# Altium footprint library DPAK_M.PcbLib: 40 footprints (part 2 of 3)
Each footprint in its own frame and in the unit in brackets; x right, y up, seen from the top. Pads: shape width x height; smd on the part's side, far side on the other; paste and mask are expansions set on the pad; w line width, h text height; cw(c..) or ccw(c..) is an arc to the next point about the centre after c.
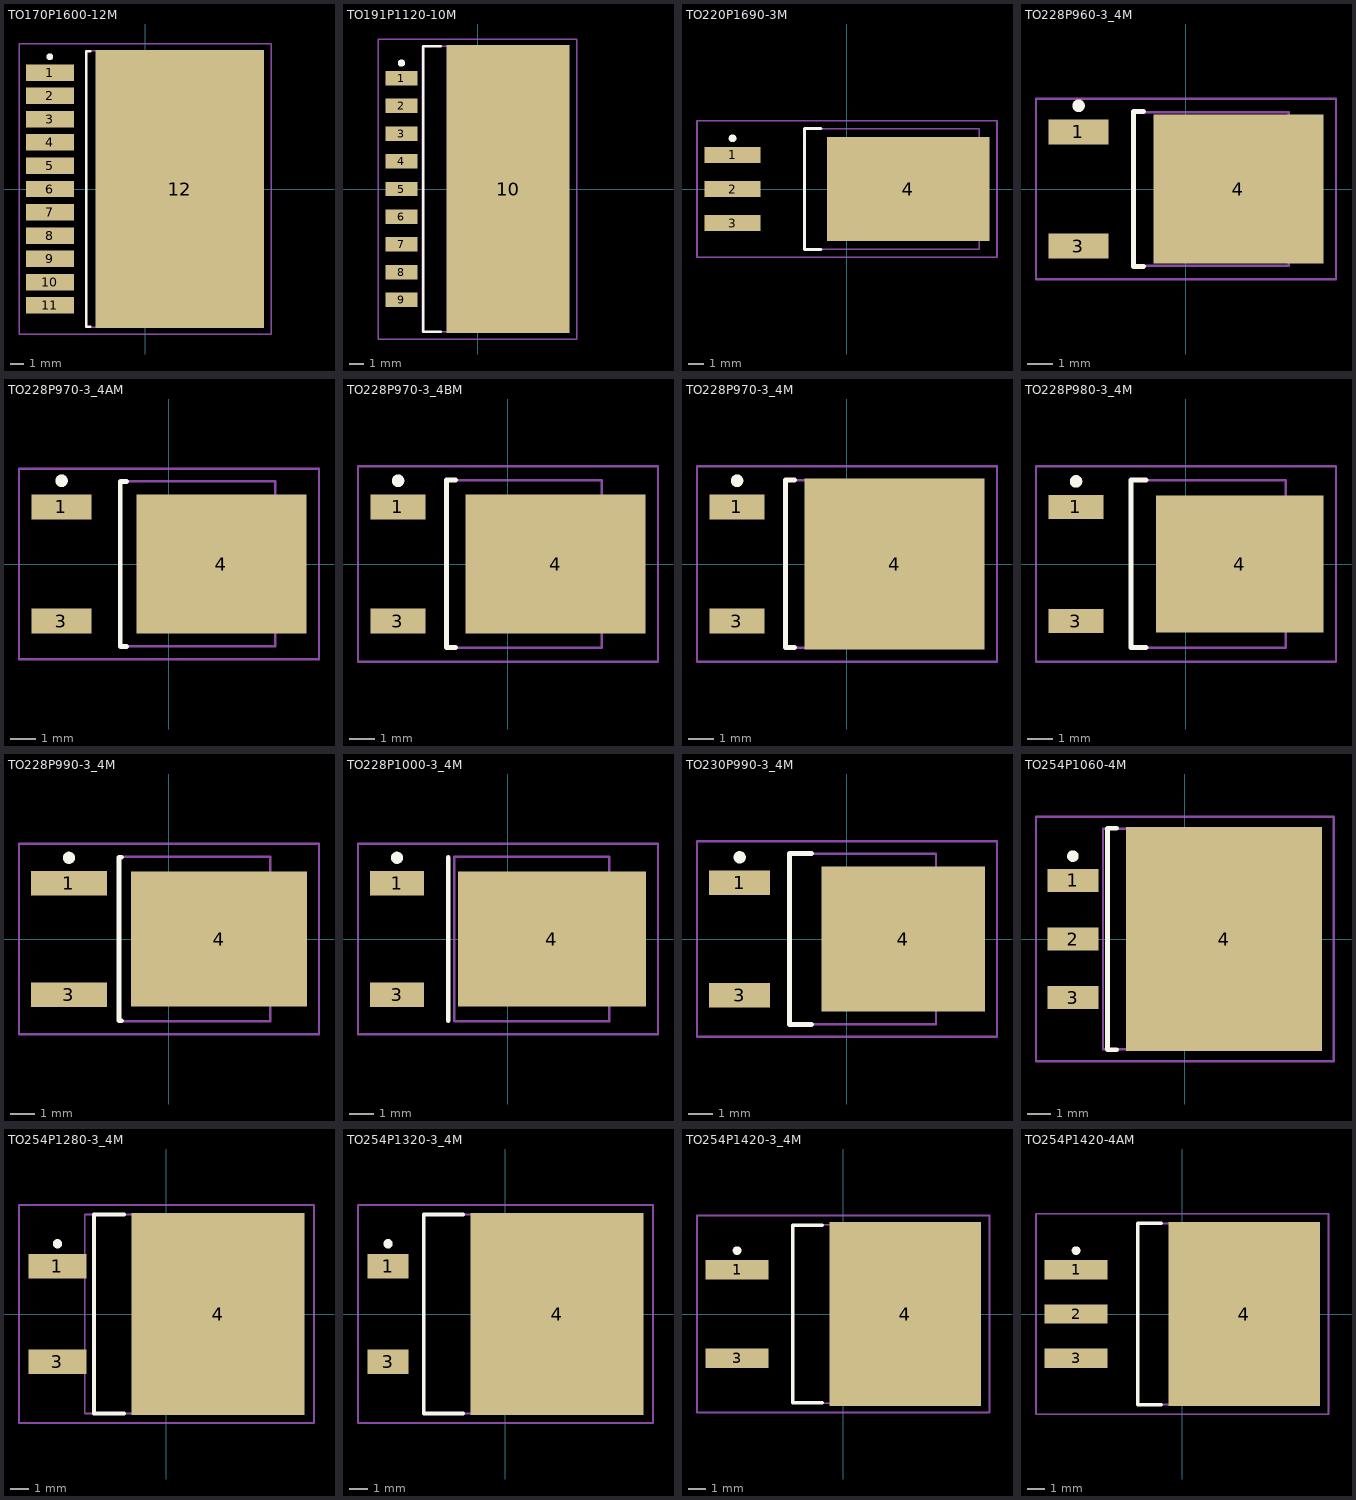
[diagram p1: the footprints below, top view; thin cyan lines are the x and y axes]

## TO170P1600-12M [mm] "TO, 12-Leads, Body 10.7x20mm, Pitch 1.7mm, Lead Span 16mm, IPC Low Density"
height 4.65
pads (12):
  rect 3.5x1.2 smd: 1(-6.95,8.5) 2(-6.95,6.8) 3(-6.95,5.1) 4(-6.95,3.4) 5(-6.95,1.7) 6(-6.95,0) 7(-6.95,-1.7) 8(-6.95,-3.4) 9(-6.95,-5.1) 10(-6.95,-6.8) 11(-6.95,-8.5)
  rect 12.3x20.3 smd: 12(2.55,0)
Top Overlay:
  circle w0.25: c-6.95,9.65 r0.125
  lines w0.2: -4,-10.05 -4.3,-10.05 -4.3,10.05 -4,10.05
Mechanical 13:
  lines w0.1: -4.3,-10.075 -4.3,10.075 6.52,10.075 6.52,-10.075 -4.3,-10.075
Mechanical 15:
  lines w0.1: -0.5,0 0.5,0 ; 0,-0.5 0,0.5 ; -9.2,-10.6 -9.2,10.6 9.2,10.6 9.2,-10.6 -9.2,-10.6
3D body: height 4.65, standoff 0, extent -4.3,-10.075 6.52,10.075

## TO191P1120-10M [mm] "TO, 10-Leads, Body 8.7x19.6mm, Pitch 1.91mm, Lead Span 11.2mm, IPC Low Density"
height 2.05
pads (10):
  rect 2.2x1 smd: 1(-5.25,7.64) 2(-5.25,5.73) 3(-5.25,3.82) 4(-5.25,1.91) 5(-5.25,0) 6(-5.25,-1.91) 7(-5.25,-3.82) 8(-5.25,-5.73) 9(-5.25,-7.64)
  rect 8.5x19.85 smd: 10(2.1,0)
Top Overlay:
  circle w0.25: c-5.25,8.69 r0.125
  lines w0.2: -2.55,-9.85 -3.75,-9.85 -3.75,9.85 -2.55,9.85
Mechanical 13:
  lines w0.1: -3.8,-9.85 -3.8,9.85 5,9.85 5,-9.85 -3.8,-9.85
Mechanical 15:
  lines w0.1: -0.5,0 0.5,0 ; 0,-0.5 0,0.5 ; -6.85,-10.35 -6.85,10.35 6.85,10.35 6.85,-10.35 -6.85,-10.35
3D body: height 2.05, standoff 0, extent -3.8,-9.85 5,9.85

## TO220P1690-3M [mm] "Single-Ended SM Package, 3-Leads, Body 10.9x7.6mm, Pitch 2.2mm, Lead Span 16.9mm, IPC Low Density"
height 2.7
pads (4):
  rect 3.6x1.05 smd: 1(-7.4,2.2) 2(-7.4,0) 3(-7.4,-2.2)
  rect 10.5x6.75 smd: 4(3.95,0)
Top Overlay:
  circle w0.25: c-7.4,3.275 r0.125
  lines w0.2: -1.7,-3.9 -2.75,-3.9 -2.75,3.9 -1.7,3.9
Mechanical 13:
  lines w0.1: -2.75,-3.9 -2.75,3.9 8.55,3.9 8.55,-3.9 -2.75,-3.9
Mechanical 15:
  lines w0.1: -0.5,0 0.5,0 ; 0,-0.5 0,0.5 ; -9.7,-4.4 -9.7,4.4 9.7,4.4 9.7,-4.4 -9.7,-4.4
3D body: height 2.7, standoff 0, extent -2.75,-3.9 8.55,3.9

## TO228P960-3_4M [mm] "D-PAK, 4-Leads, Body 6.1x6mm, Pitch 2.28mm, Lead Span 9.7mm, IPC Low Density"
height 2.03
pads (3):
  rect 2.4x1 smd: 1(-4.3,2.28) 3(-4.3,-2.28)
  rect 6.8x5.95 smd: 4(2.1,0)
Top Overlay:
  circle w0.25: c-4.3,3.33 r0.125
  lines w0.2: -1.7,-3.1 -2.1,-3.1 -2.1,3.1 -1.7,3.1
Mechanical 13:
  lines w0.1: -2.1,-3.075 -2.1,3.075 4.1,3.075 4.1,-3.075 -2.1,-3.075
Mechanical 15:
  lines w0.1: -0.5,0 0.5,0 ; 0,-0.5 0,0.5 ; -6,-3.6 -6,3.6 6,3.6 6,-3.6 -6,-3.6
3D body: height 2.03, standoff 0, extent -2.1,-3.075 4.1,3.075

## TO228P970-3_4AM [mm] "D-PAK, 4-Leads, Body 6.1x6.5mm, Pitch 2.28mm, Lead Span 9.7mm, IPC Low Density"
height 2.4
pads (3):
  rect 2.4x1 smd: 1(-4.3,2.28) 3(-4.3,-2.28)
  rect 6.8x5.55 smd: 4(2.1,0)
Top Overlay:
  circle w0.25: c-4.3,3.33 r0.125
  lines w0.2: -1.7,-3.3 -1.95,-3.3 -1.95,3.3 -1.7,3.3
Mechanical 13:
  lines w0.1: -1.95,-3.3 -1.95,3.3 4.25,3.3 4.25,-3.3 -1.95,-3.3
Mechanical 15:
  lines w0.1: -0.5,0 0.5,0 ; 0,-0.5 0,0.5 ; -6,-3.8 -6,3.8 6,3.8 6,-3.8 -6,-3.8
3D body: height 2.4, standoff 0, extent -1.95,-3.3 4.25,3.3

## TO228P970-3_4BM [mm] "D-PAK, 4-Leads, Body 6.1x6.6mm, Pitch 2.29mm, Lead Span 9.7mm, IPC Low Density"
height 2.38
pads (3):
  rect 2.2x1 smd: 1(-4.4,2.28) 3(-4.4,-2.28)
  rect 7.2x5.55 smd: 4(1.9,0)
Top Overlay:
  circle w0.25: c-4.4,3.33 r0.125
  lines w0.2: -2.1,-3.35 -2.45,-3.35 -2.45,3.35 -2.1,3.35
Mechanical 13:
  lines w0.1: -2.45,-3.35 -2.45,3.35 3.75,3.35 3.75,-3.35 -2.45,-3.35
Mechanical 15:
  lines w0.1: -0.5,0 0.5,0 ; 0,-0.5 0,0.5 ; -6,-3.9 -6,3.9 6,3.9 6,-3.9 -6,-3.9
3D body: height 2.38, standoff 0, extent -2.449,-3.349 3.749,3.349

## TO228P970-3_4M [mm] "D-PAK, 4-Leads, Body 6.1x6.5mm, Pitch 2.28mm, Lead Span 9.7mm, IPC Low Density"
height 2.38
pads (3):
  rect 2.2x1 smd: 1(-4.4,2.28) 3(-4.4,-2.28)
  rect 7.2x6.85 smd: 4(1.9,0)
Top Overlay:
  circle w0.25: c-4.4,3.33 r0.125
  lines w0.2: -2.1,-3.35 -2.45,-3.35 -2.45,3.35 -2.1,3.35
Mechanical 13:
  lines w0.1: -2.45,-3.35 3.75,-3.35 3.75,3.35 -2.45,3.35 -2.45,-3.35
Mechanical 15:
  lines w0.1: -0.5,0 0.5,0 ; 0,-0.5 0,0.5 ; -6,-3.9 6,-3.9 6,3.9 -6,3.9 -6,-3.9
3D body: height 2.38, standoff 0, extent -2.45,-3.35 3.75,3.35

## TO228P980-3_4M [mm] "D-PAK, 4-Leads, Body 6.1x6.6mm, Pitch 2.28mm, Lead Span 9.8mm, IPC Low Density"
height 2.38
pads (3):
  rect 2.2x0.95 smd: 1(-4.4,2.28) 3(-4.4,-2.28)
  rect 6.7x5.5 smd: 4(2.15,0)
Top Overlay:
  circle w0.25: c-4.4,3.305 r0.125
  lines w0.2: -1.6,-3.35 -2.2,-3.35 -2.2,3.35 -1.6,3.35
Mechanical 13:
  lines w0.1: -2.2,-3.35 -2.2,3.35 4,3.35 4,-3.35 -2.2,-3.35
Mechanical 15:
  lines w0.1: -0.5,0 0.5,0 ; 0,-0.5 0,0.5 ; -6,-3.9 -6,3.9 6,3.9 6,-3.9 -6,-3.9
3D body: height 2.38, standoff 0, extent -2.2,-3.35 4,3.35

## TO228P990-3_4M [mm] "D-PAK, 4-Leads, Body 6.1x6.5mm, Pitch 2.28mm, Lead Span 9.9mm, IPC Low Density"
height 2.39
pads (3):
  rect 3.1x1 smd: 1(-4.1,2.28) 3(-4.1,-2.28)
  rect 7.2x5.55 smd: 4(2.05,0)
Top Overlay:
  circle w0.25: c-4.1,3.33 r0.125
  lines w0.2: -1.95,-3.35 -2.05,-3.35 -2.05,3.35 -1.95,3.35
Mechanical 13:
  lines w0.1: -2.05,-3.375 -2.05,3.375 4.15,3.375 4.15,-3.375 -2.05,-3.375
Mechanical 15:
  lines w0.1: -0.5,0 0.5,0 ; 0,-0.5 0,0.5 ; -6.15,-3.9 -6.15,3.9 6.15,3.9 6.15,-3.9 -6.15,-3.9
3D body: height 2.39, standoff 0, extent -2.05,-3.375 4.15,3.375

## TO228P1000-3_4M [mm] "D-PAK, 4-Leads, Body 6.1x6.6mm, Pitch 2.28mm, Lead Span 10mm, IPC Low Density"
height 2.38
pads (3):
  rect 2.2x1 smd: 1(-4.55,2.28) 3(-4.55,-2.28)
  rect 7.7x5.55 smd: 4(1.8,0)
Top Overlay:
  circle w0.25: c-4.55,3.33 r0.125
  lines w0.2: -2.45,-3.35 -2.45,3.35
Mechanical 13:
  lines w0.1: -2.2,-3.375 4.15,-3.375 4.15,3.375 -2.2,3.375 -2.2,-3.375
Mechanical 15:
  lines w0.1: -0.5,0 0.5,0 ; 0,-0.5 0,0.5 ; -6.15,-3.9 6.15,-3.9 6.15,3.9 -6.15,3.9 -6.15,-3.9
3D body: height 2.38, standoff 0, extent -2.2,-3.375 4.15,3.375

## TO230P990-3_4M [mm] "D-PAK, 4-Leads, Body 6x7mm, Pitch 2.3mm, Lead Span 9.9mm, IPC Low Density"
height 2.8
pads (3):
  rect 2.5x1 smd: 1(-4.4,2.3) 3(-4.4,-2.3)
  rect 6.7x5.95 smd: 4(2.3,0)
Top Overlay:
  circle w0.25: c-4.4,3.35 r0.125
  lines w0.2: -1.45,-3.5 -2.35,-3.5 -2.35,3.5 -1.45,3.5
Mechanical 13:
  lines w0.1: -2.35,-3.5 3.65,-3.5 3.65,3.5 -2.35,3.5 -2.35,-3.5
Mechanical 15:
  lines w0.1: -0.5,0 0.5,0 ; 0,-0.5 0,0.5 ; -6.15,-4 6.15,-4 6.15,4 -6.15,4 -6.15,-4
3D body: height 2.8, standoff 0, extent -2.35,-3.5 3.65,3.5

## TO254P1060-4M [mm] "D-PAK, 4-Leads, Body 8x9.4mm, Pitch 2.54mm, Lead Span 10.6mm, IPC Low Density"
height 2.05
pads (4):
  rect 2.2x1 smd: 1(-4.85,2.54) 2(-4.85,0) 3(-4.85,-2.54)
  rect 8.5x9.7 smd: 4(1.7,0)
Top Overlay:
  circle w0.25: c-4.85,3.59 r0.125
  lines w0.2: -2.95,-4.8 -3.35,-4.8 -3.35,4.8 -2.95,4.8
Mechanical 13:
  lines w0.1: -3.55,-4.775 -3.55,4.775 4.6,4.775 4.6,-4.775 -3.55,-4.775
Mechanical 15:
  lines w0.1: -0.5,0 0.5,0 ; 0,-0.5 0,0.5 ; -6.45,-5.3 -6.45,5.3 6.45,5.3 6.45,-5.3 -6.45,-5.3
3D body: height 2.05, standoff 0, extent -3.55,-4.775 4.6,4.775

## TO254P1280-3_4M [mm] "TO, 4-Leads, Body 9.6x10.2mm, Pitch 2.54mm, Lead Span 12.8mm, IPC Low Density"
height 5.1
pads (3):
  rect 3.1x1.3 smd: 1(-5.8,2.54) 3(-5.8,-2.54)
  rect 9.2x10.75 smd: 4(2.75,0)
Top Overlay:
  circle w0.25: c-5.8,3.74 r0.125
  lines w0.2: -2.25,-5.3 -3.85,-5.3 -3.85,5.3 -2.25,5.3
Mechanical 13:
  lines w0.1: -4.35,-5.3 -4.35,5.3 5.25,5.3 5.25,-5.3 -4.35,-5.3
Mechanical 15:
  lines w0.1: -0.5,0 0.5,0 ; 0,-0.5 0,0.5 ; -7.85,-5.8 -7.85,5.8 7.85,5.8 7.85,-5.8 -7.85,-5.8
3D body: height 5.1, standoff 0, extent -4.35,-5.3 5.25,5.3

## TO254P1320-3_4M [mm] "TO, 4-Leads, Body 9.6x10.2mm, Pitch 2.54mm, Lead Span 13.2mm, IPC Low Density"
height 5.1
pads (3):
  rect 2.2x1.3 smd: 1(-6.25,2.54) 3(-6.25,-2.54)
  rect 9.2x10.75 smd: 4(2.75,0)
Top Overlay:
  circle w0.25: c-6.25,3.74 r0.125
  lines w0.2: -2.25,-5.3 -4.35,-5.3 -4.35,5.3 -2.25,5.3
Mechanical 13:
  lines w0.1: -4.35,-5.3 -4.35,5.3 5.25,5.3 5.25,-5.3 -4.35,-5.3
Mechanical 15:
  lines w0.1: -0.5,0 0.5,0 ; 0,-0.5 0,0.5 ; -7.85,-5.8 -7.85,5.8 7.85,5.8 7.85,-5.8 -7.85,-5.8
3D body: height 5.1, standoff 0, extent -4.35,-5.3 5.25,5.3

## TO254P1420-3_4M [mm] "D2-PAK, 4-Leads, Body 9.2x10mm, Pitch 2.54mm, Lead Span 14.2mm, IPC Low Density"
height 4.57
pads (3):
  rect 3.6x1.1 smd: 1(-6.1,2.54) 3(-6.1,-2.54)
  rect 8.7x10.55 smd: 4(3.55,0)
Top Overlay:
  circle w0.25: c-6.1,3.64 r0.125
  lines w0.2: -1.2,-5.1 -2.9,-5.1 -2.9,5.1 -1.2,5.1
Mechanical 13:
  lines w0.1: -2.9,-5.125 6.45,-5.125 6.45,5.125 -2.9,5.125 -2.9,-5.125
Mechanical 15:
  lines w0.1: -0.5,0 0.5,0 ; 0,-0.5 0,0.5 ; -8.4,-5.65 8.4,-5.65 8.4,5.65 -8.4,5.65 -8.4,-5.65
3D body: height 4.57, standoff 0, extent -2.9,-5.125 6.45,5.125

## TO254P1420-4AM [mm] "D2-PAK, 4-Leads, Body 8.6x10.2mm, Pitch 2.54mm, Lead Span 14.2mm, IPC Low Density"
height 4.64
pads (4):
  rect 3.6x1.1 smd: 1(-6.1,2.54) 2(-6.1,0) 3(-6.1,-2.54)
  rect 8.7x10.55 smd: 4(3.55,0)
Top Overlay:
  circle w0.25: c-6.1,3.64 r0.125
  lines w0.2: -1.2,-5.2 -2.55,-5.2 -2.55,5.2 -1.2,5.2
Mechanical 13:
  lines w0.1: -2.55,-5.2 6.34,-5.2 6.34,5.2 -2.55,5.2 -2.55,-5.2
Mechanical 15:
  lines w0.1: -0.5,0 0.5,0 ; 0,-0.5 0,0.5 ; -8.4,-5.75 8.4,-5.75 8.4,5.75 -8.4,5.75 -8.4,-5.75
3D body: height 4.64, standoff 0, extent -2.549,-5.199 6.339,5.199